# EAGLE library part DRV8801-CARRIER (library MotorDrivers)
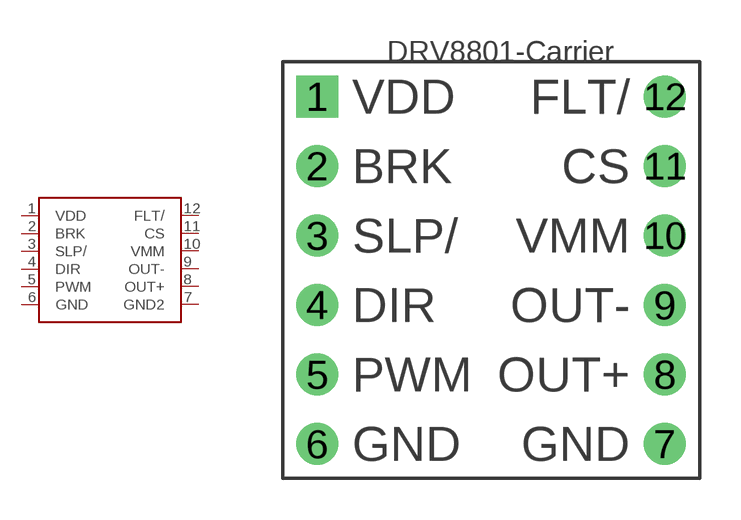
[diagram p1: symbol with the pads of DRV8801-CARRIER; footprint DRV8801-CARRIER]

Designator prefix -

## DRV8801-CARRIER  [DRV8801-CARRIER]
1  VDD
2  BRK
3  SLP/
4  DIR
5  PWM
6  GND
7  GND2
8  OUT+
9  OUT-
10  VMM
11  CS
12  FLT/

## Footprint DRV8801-CARRIER (pad centres in mm)
drill 1.016 square: 1 -6.35,6.35
drill 1.016: 2 -6.35,3.81; 3 -6.35,1.27; 4 -6.35,-1.27; 5 -6.35,-3.81; 6 -6.35,-6.35; 7 6.35,-6.35; 8 6.35,-3.81; 9 6.35,-1.27; 10 6.35,1.27; 11 6.35,3.81; 12 6.35,6.35